# EAGLE library part MCP2551 (library PP_DigitalIC)
Manufacturer Part #: MCP2551 Manufacturer: Microchip Technology Description: CAN Interface IC Hi Spd CAN Transceiv
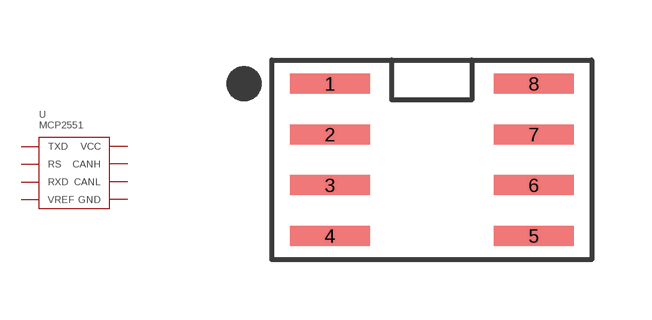
[diagram p23: symbol with the pads of MCP2551_SOIC-8; footprint MCP2551_SOIC-8]

Designator prefix U

## MCP2551-I/SN  [MCP2551_SOIC-8]
1  TXD
2  GND
3  VCC
4  RXD
5  VREF
6  CANL
7  CANH
8  RS

## Footprint MCP2551_SOIC-8 (pad centres in mm)
smd 2 x 0.5: 1 -2.55,1.905; 2 -2.55,0.635; 3 -2.55,-0.635; 4 -2.55,-1.905; 5 2.55,-1.905; 6 2.55,-0.635; 7 2.55,0.635; 8 2.55,1.905